# Altium footprint library TVS Diode 3V3.PcbLib: 1 footprints
Each footprint in its own frame and in the unit in brackets; x right, y up, seen from the top. Pads: shape width x height; smd on the part's side, far side on the other; paste and mask are expansions set on the pad; w line width, h text height; cw(c..) or ccw(c..) is an arc to the next point about the centre after c.
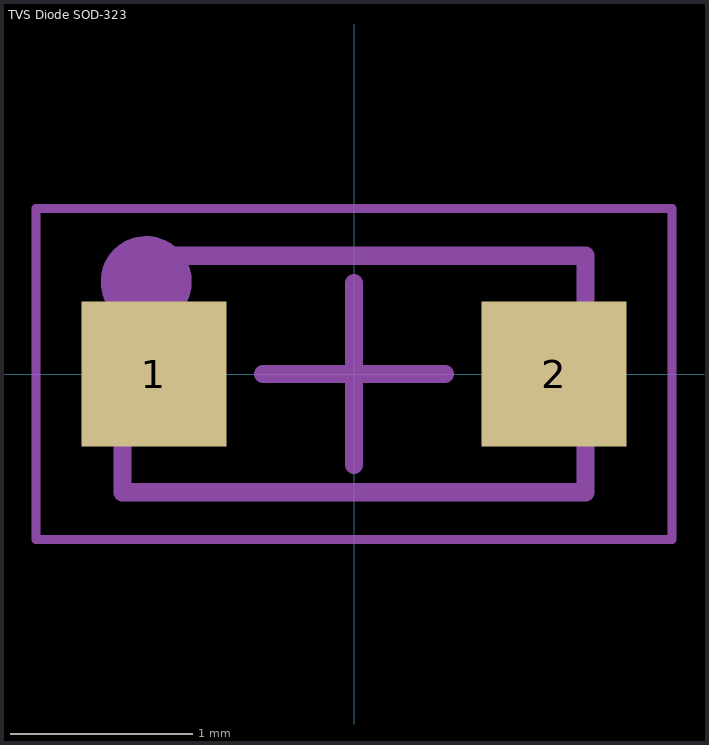
[diagram p0: the footprint, top view; thin cyan lines are the x and y axes]

## TVS Diode SOD-323 [mm]
pads (2):
  rect 0.8x0.8 smd: 1(-1.1,0) 2(1.1,0)
Mechanical 6:
  text "'.Designator'" at -0.711,-0.127 h0.3
Mechanical 8:
  circle w0.25: c-1.143,0.508 r0.125
  lines w0.05: -1.75,-0.91 -1.75,0.91 1.75,0.91 1.75,-0.91 -1.75,-0.91
Mechanical 13:
  lines w0.1: -1.273,-0.65 -1.273,0.65 1.273,0.65 1.273,-0.65 -1.273,-0.65
Mechanical 15:
  lines w0.05: -1.75,-0.91 1.75,-0.91 1.75,0.91 -1.75,0.91 -1.75,-0.91
  lines w0.1: -0.5,0 0.5,0 ; 0,-0.5 0,0.5
3D body "cdsod323-t03SC.stp": height 1.04, standoff 0.03, extent -1.273,-0.65 1.273,0.65